# Altium schematic symbol library WE-CMANC.SchLib: 29 symbols
Pins are listed as number, name and electrical type; pins without a type are passive.

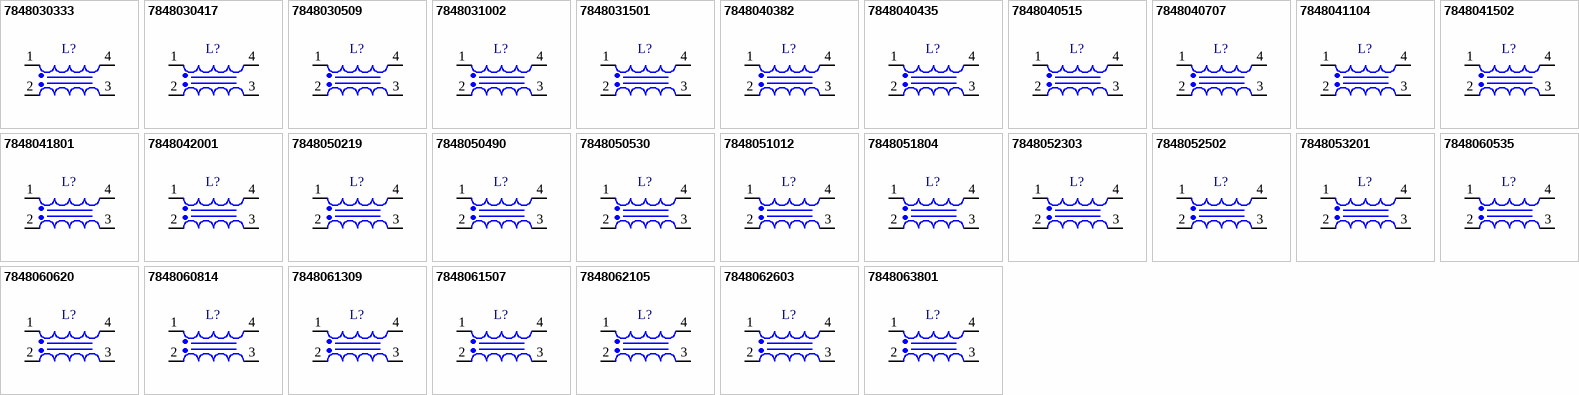
[diagram p0: symbols 7848030333 to 7848063801]

## 7848030333
designator L?, comment 33mH  (value not drawn)
WE-CMANC Common Mode Power Line Choke Nanocrystalline, THT, Type M, 33mH, 2.5A, 94mΩ; Manufacturer Part Number: 7848030333; Manufacturer: Wurth Elektronik; Case/Size Code: Type M; Insulation Test Voltage: 2100V (AC); Rated Voltage: 300V (AC); Category: Common Mode Chokes; Match Code: WE-CMANC; ComponentLink1Description: Website Link; ComponentLink1URL: https://www.we-online.com/redexpert/article/7848030333?ad; ComponentLink2Description: Datasheet Link; ComponentLink2URL: https://www.we-online.com/redexpert/spec/7848030333?ad; Mount: Through Hole; Min Operating Temperature: -55°C; Max Operating Temperature: 125°C; Packaging: Tray; Length: 23mm; Width: 13.5mm; Height: 26mm; Rated Current: 2.5A; Automotive: Yes; DC Resistance Max: 94mΩ; Inductance: 33mH
footprint Type M_7848030333
pins: 1, 2, 3, 4

## 7848030417
designator L?, comment 17mH  (value not drawn)
WE-CMANC Common Mode Power Line Choke Nanocrystalline, THT, Type M, 17mH, 4A, 52mΩ; Manufacturer Part Number: 7848030417; Manufacturer: Wurth Elektronik; Case/Size Code: Type M; Insulation Test Voltage: 2100V (AC); Rated Voltage: 300V (AC); Category: Common Mode Chokes; Match Code: WE-CMANC; ComponentLink1Description: Website Link; ComponentLink1URL: https://www.we-online.com/redexpert/article/7848030417?ad; ComponentLink2Description: Datasheet Link; ComponentLink2URL: https://www.we-online.com/redexpert/spec/7848030417?ad; Mount: Through Hole; Min Operating Temperature: -55°C; Max Operating Temperature: 125°C; Packaging: Tray; Length: 23mm; Width: 13.5mm; Height: 26mm; Rated Current: 4A; Automotive: Yes; DC Resistance Max: 52mΩ; Inductance: 17mH
footprint Type M_7848030417
pins: 1, 2, 3, 4

## 7848030509
designator L?, comment 9mH  (value not drawn)
WE-CMANC Common Mode Power Line Choke Nanocrystalline, THT, Type M, 9mH, 5A, 32mΩ; Manufacturer Part Number: 7848030509; Manufacturer: Wurth Elektronik; Case/Size Code: Type M; Insulation Test Voltage: 2100V (AC); Rated Voltage: 300V (AC); Category: Common Mode Chokes; Match Code: WE-CMANC; ComponentLink1Description: Website Link; ComponentLink1URL: https://www.we-online.com/redexpert/article/7848030509?ad; ComponentLink2Description: Datasheet Link; ComponentLink2URL: https://www.we-online.com/redexpert/spec/7848030509?ad; Mount: Through Hole; Min Operating Temperature: -55°C; Max Operating Temperature: 125°C; Packaging: Tray; Length: 23mm; Width: 13.5mm; Height: 26mm; Rated Current: 5A; Automotive: Yes; DC Resistance Max: 32mΩ; Inductance: 9mH
footprint Type M_7848030509
pins: 1, 2, 3, 4

## 7848031002
designator L?, comment 2mH  (value not drawn)
WE-CMANC Common Mode Power Line Choke Nanocrystalline, THT, Type M, 2mH, 10A, 6.3mΩ; Manufacturer Part Number: 7848031002; Manufacturer: Wurth Elektronik; Case/Size Code: Type M; Insulation Test Voltage: 2100V (AC); Rated Voltage: 300V (AC); Category: Common Mode Chokes; Match Code: WE-CMANC; ComponentLink1Description: Website Link; ComponentLink1URL: https://www.we-online.com/redexpert/article/7848031002?ad; ComponentLink2Description: Datasheet Link; ComponentLink2URL: https://www.we-online.com/redexpert/spec/7848031002?ad; Mount: Through Hole; Min Operating Temperature: -55°C; Max Operating Temperature: 125°C; Packaging: Tray; Length: 24mm; Width: 17mm; Height: 25mm; Rated Current: 10A; Automotive: Yes; DC Resistance Max: 6.3mΩ; Inductance: 2mH
footprint Type M_7848031002
pins: 1, 2, 3, 4

## 7848031501
designator L?, comment 1mH  (value not drawn)
WE-CMANC Common Mode Power Line Choke Nanocrystalline, THT, Type M, 1mH, 15A, 3.2mΩ; Manufacturer Part Number: 7848031501; Manufacturer: Wurth Elektronik; Case/Size Code: Type M; Insulation Test Voltage: 2100V (AC); Rated Voltage: 300V (AC); Category: Common Mode Chokes; Match Code: WE-CMANC; ComponentLink1Description: Website Link; ComponentLink1URL: https://www.we-online.com/redexpert/article/7848031501?ad; ComponentLink2Description: Datasheet Link; ComponentLink2URL: https://www.we-online.com/redexpert/spec/7848031501?ad; Mount: Through Hole; Min Operating Temperature: -55°C; Max Operating Temperature: 125°C; Packaging: Tray; Length: 24mm; Width: 17mm; Height: 25mm; Rated Current: 15A; Automotive: Yes; DC Resistance Max: 3.2mΩ; Inductance: 1mH
footprint Type M_7848031501
pins: 1, 2, 3, 4

## 7848040382
designator L?, comment 82mH  (value not drawn)
WE-CMANC Common Mode Power Line Choke Nanocrystalline, THT, Type L, 82mH, 2.5A, 170mΩ; Manufacturer Part Number: 7848040382; Manufacturer: Wurth Elektronik; Case/Size Code: Type L; Insulation Test Voltage: 2100V (AC); Rated Voltage: 300V (AC); Category: Common Mode Chokes; Match Code: WE-CMANC; ComponentLink1Description: Website Link; ComponentLink1URL: https://www.we-online.com/redexpert/article/7848040382?ad; ComponentLink2Description: Datasheet Link; ComponentLink2URL: https://www.we-online.com/redexpert/spec/7848040382?ad; Mount: Through Hole; Min Operating Temperature: -55°C; Max Operating Temperature: 125°C; Packaging: Tray; Length: 27mm; Width: 18mm; Height: 32mm; Rated Current: 2.5A; Automotive: Yes; DC Resistance Max: 170mΩ; Inductance: 82mH
footprint Type L_7848040382
pins: 1, 2, 3, 4

## 7848040435
designator L?, comment 35mH  (value not drawn)
WE-CMANC Common Mode Power Line Choke Nanocrystalline, THT, Type L, 35mH, 3.5A, 80mΩ; Manufacturer Part Number: 7848040435; Manufacturer: Wurth Elektronik; Case/Size Code: Type L; Insulation Test Voltage: 2100V (AC); Rated Voltage: 300V (AC); Category: Common Mode Chokes; Match Code: WE-CMANC; ComponentLink1Description: Website Link; ComponentLink1URL: https://www.we-online.com/redexpert/article/7848040435?ad; ComponentLink2Description: Datasheet Link; ComponentLink2URL: https://www.we-online.com/redexpert/spec/7848040435?ad; Mount: Through Hole; Min Operating Temperature: -55°C; Max Operating Temperature: 125°C; Packaging: Tray; Length: 27mm; Width: 18mm; Height: 32mm; Rated Current: 3.5A; Automotive: Yes; DC Resistance Max: 80mΩ; Inductance: 35mH
footprint Type L_7848040435
pins: 1, 2, 3, 4

## 7848040515
designator L?, comment 15mH  (value not drawn)
WE-CMANC Common Mode Power Line Choke Nanocrystalline, THT, Type L, 15mH, 5A, 40mΩ; Manufacturer Part Number: 7848040515; Manufacturer: Wurth Elektronik; Case/Size Code: Type L; Insulation Test Voltage: 2100V (AC); Rated Voltage: 300V (AC); Category: Common Mode Chokes; Match Code: WE-CMANC; ComponentLink1Description: Website Link; ComponentLink1URL: https://www.we-online.com/redexpert/article/7848040515?ad; ComponentLink2Description: Datasheet Link; ComponentLink2URL: https://www.we-online.com/redexpert/spec/7848040515?ad; Mount: Through Hole; Min Operating Temperature: -55°C; Max Operating Temperature: 125°C; Packaging: Tray; Length: 27mm; Width: 18mm; Height: 32mm; Rated Current: 5A; Automotive: Yes; DC Resistance Max: 40mΩ; Inductance: 15mH
footprint Type L_7848040515
pins: 1, 2, 3, 4

## 7848040707
designator L?, comment 7mH  (value not drawn)
WE-CMANC Common Mode Power Line Choke Nanocrystalline, THT, Type L, 7mH, 7A, 22mΩ; Manufacturer Part Number: 7848040707; Manufacturer: Wurth Elektronik; Case/Size Code: Type L; Insulation Test Voltage: 2100V (AC); Rated Voltage: 300V (AC); Category: Common Mode Chokes; Match Code: WE-CMANC; ComponentLink1Description: Website Link; ComponentLink1URL: https://www.we-online.com/redexpert/article/7848040707?ad; ComponentLink2Description: Datasheet Link; ComponentLink2URL: https://www.we-online.com/redexpert/spec/7848040707?ad; Mount: Through Hole; Min Operating Temperature: -55°C; Max Operating Temperature: 125°C; Packaging: Tray; Length: 29mm; Width: 19mm; Height: 28mm; Rated Current: 7A; Automotive: Yes; DC Resistance Max: 22mΩ; Inductance: 7mH
footprint Type L_7848040707
pins: 1, 2, 3, 4

## 7848041104
designator L?, comment 4mH  (value not drawn)
WE-CMANC Common Mode Power Line Choke Nanocrystalline, THT, Type L, 4mH, 11A, 8.8mΩ; Manufacturer Part Number: 7848041104; Manufacturer: Wurth Elektronik; Case/Size Code: Type L; Insulation Test Voltage: 2100V (AC); Rated Voltage: 300V (AC); Category: Common Mode Chokes; Match Code: WE-CMANC; ComponentLink1Description: Website Link; ComponentLink1URL: https://www.we-online.com/redexpert/article/7848041104?ad; ComponentLink2Description: Datasheet Link; ComponentLink2URL: https://www.we-online.com/redexpert/spec/7848041104?ad; Mount: Through Hole; Min Operating Temperature: -55°C; Max Operating Temperature: 125°C; Packaging: Tray; Length: 29mm; Width: 19mm; Height: 28mm; Rated Current: 11A; Automotive: Yes; DC Resistance Max: 8.8mΩ; Inductance: 4mH
footprint Type L_7848041104
pins: 1, 2, 3, 4

## 7848041502
designator L?, comment 2mH  (value not drawn)
WE-CMANC Common Mode Power Line Choke Nanocrystalline, THT, Type L, 2mH, 15A, 5mΩ; Manufacturer Part Number: 7848041502; Manufacturer: Wurth Elektronik; Case/Size Code: Type L; Insulation Test Voltage: 2100V (AC); Rated Voltage: 300V (AC); Category: Common Mode Chokes; Match Code: WE-CMANC; ComponentLink1Description: Website Link; ComponentLink1URL: https://www.we-online.com/redexpert/article/7848041502?ad; ComponentLink2Description: Datasheet Link; ComponentLink2URL: https://www.we-online.com/redexpert/spec/7848041502?ad; Mount: Through Hole; Min Operating Temperature: -55°C; Max Operating Temperature: 125°C; Packaging: Tray; Length: 29mm; Width: 19mm; Height: 28mm; Rated Current: 15A; Automotive: Yes; DC Resistance Max: 5mΩ; Inductance: 2mH
footprint Type L_7848041502
pins: 1, 2, 3, 4

## 7848041801
designator L?, comment 1.5mH  (value not drawn)
WE-CMANC Common Mode Power Line Choke Nanocrystalline, THT, Type L, 1.5mH, 18A, 3.2mΩ; Manufacturer Part Number: 7848041801; Manufacturer: Wurth Elektronik; Case/Size Code: Type L; Insulation Test Voltage: 2100V (AC); Rated Voltage: 300V (AC); Category: Common Mode Chokes; Match Code: WE-CMANC; ComponentLink1Description: Website Link; ComponentLink1URL: https://www.we-online.com/redexpert/article/7848041801?ad; ComponentLink2Description: Datasheet Link; ComponentLink2URL: https://www.we-online.com/redexpert/spec/7848041801?ad; Mount: Through Hole; Min Operating Temperature: -55°C; Max Operating Temperature: 125°C; Packaging: Tray; Length: 30mm; Width: 19mm; Height: 28mm; Rated Current: 18A; Automotive: Yes; DC Resistance Max: 3.2mΩ; Inductance: 1.5mH
footprint Type L_7848041801
pins: 1, 2, 3, 4

## 7848042001
designator L?, comment 1mH  (value not drawn)
WE-CMANC Common Mode Power Line Choke Nanocrystalline, THT, Type L, 1mH, 20A, 2.4mΩ; Manufacturer Part Number: 7848042001; Manufacturer: Wurth Elektronik; Case/Size Code: Type L; Insulation Test Voltage: 2100V (AC); Rated Voltage: 300V (AC); Category: Common Mode Chokes; Match Code: WE-CMANC; ComponentLink1Description: Website Link; ComponentLink1URL: https://www.we-online.com/redexpert/article/7848042001?ad; ComponentLink2Description: Datasheet Link; ComponentLink2URL: https://www.we-online.com/redexpert/spec/7848042001?ad; Mount: Through Hole; Min Operating Temperature: -55°C; Max Operating Temperature: 125°C; Packaging: Tray; Length: 30mm; Width: 19mm; Height: 28mm; Rated Current: 20A; Automotive: Yes; DC Resistance Max: 2.4mΩ; Inductance: 1mH
footprint Type L_7848042001
pins: 1, 2, 3, 4

## 7848050219
designator L?, comment 190mH  (value not drawn)
WE-CMANC Common Mode Power Line Choke Nanocrystalline, THT, Type XL, 190mH, 2A, 310mΩ; Manufacturer Part Number: 7848050219; Manufacturer: Wurth Elektronik; Case/Size Code: Type XL; Insulation Test Voltage: 2100V (AC); Rated Voltage: 300V (AC); Category: Common Mode Chokes; Match Code: WE-CMANC; ComponentLink1Description: Website Link; ComponentLink1URL: https://www.we-online.com/redexpert/article/7848050219?ad; ComponentLink2Description: Datasheet Link; ComponentLink2URL: https://www.we-online.com/redexpert/spec/7848050219?ad; Mount: Through Hole; Min Operating Temperature: -55°C; Max Operating Temperature: 125°C; Packaging: Tray; Length: 33mm; Width: 19mm; Height: 38mm; Rated Current: 2A; Automotive: Yes; DC Resistance Max: 310mΩ; Inductance: 190mH
footprint Type XL_7848050219
pins: 1, 2, 3, 4

## 7848050490
designator L?, comment 90mH  (value not drawn)
WE-CMANC Common Mode Power Line Choke Nanocrystalline, THT, Type XL, 90mH, 3.5A, 110mΩ; Manufacturer Part Number: 7848050490; Manufacturer: Wurth Elektronik; Case/Size Code: Type XL; Insulation Test Voltage: 2100V (AC); Rated Voltage: 300V (AC); Category: Common Mode Chokes; Match Code: WE-CMANC; ComponentLink1Description: Website Link; ComponentLink1URL: https://www.we-online.com/redexpert/article/7848050490?ad; ComponentLink2Description: Datasheet Link; ComponentLink2URL: https://www.we-online.com/redexpert/spec/7848050490?ad; Mount: Through Hole; Min Operating Temperature: -55°C; Max Operating Temperature: 125°C; Packaging: Tray; Length: 33mm; Width: 19mm; Height: 39mm; Rated Current: 3.5A; Automotive: Yes; DC Resistance Max: 110mΩ; Inductance: 90mH
footprint Type XL_7848050490
pins: 1, 2, 3, 4

## 7848050530
designator L?, comment 30mH  (value not drawn)
WE-CMANC Common Mode Power Line Choke Nanocrystalline, THT, Type XL, 30mH, 5A, 46mΩ; Manufacturer Part Number: 7848050530; Manufacturer: Wurth Elektronik; Case/Size Code: Type XL; Insulation Test Voltage: 2100V (AC); Rated Voltage: 300V (AC); Category: Common Mode Chokes; Match Code: WE-CMANC; ComponentLink1Description: Website Link; ComponentLink1URL: https://www.we-online.com/redexpert/article/7848050530?ad; ComponentLink2Description: Datasheet Link; ComponentLink2URL: https://www.we-online.com/redexpert/spec/7848050530?ad; Mount: Through Hole; Min Operating Temperature: -55°C; Max Operating Temperature: 125°C; Packaging: Tray; Length: 33mm; Width: 23mm; Height: 33mm; Rated Current: 5A; Automotive: Yes; DC Resistance Max: 46mΩ; Inductance: 30mH
footprint Type XL_7848050530
pins: 1, 2, 3, 4

## 7848051012
designator L?, comment 12mH  (value not drawn)
WE-CMANC Common Mode Power Line Choke Nanocrystalline, THT, Type XL, 12mH, 10A, 15mΩ; Manufacturer Part Number: 7848051012; Manufacturer: Wurth Elektronik; Case/Size Code: Type XL; Insulation Test Voltage: 2100V (AC); Rated Voltage: 300V (AC); Category: Common Mode Chokes; Match Code: WE-CMANC; ComponentLink1Description: Website Link; ComponentLink1URL: https://www.we-online.com/redexpert/article/7848051012?ad; ComponentLink2Description: Datasheet Link; ComponentLink2URL: https://www.we-online.com/redexpert/spec/7848051012?ad; Mount: Through Hole; Min Operating Temperature: -55°C; Max Operating Temperature: 125°C; Packaging: Tray; Length: 34mm; Width: 23mm; Height: 33mm; Rated Current: 10A; Automotive: Yes; DC Resistance Max: 15mΩ; Inductance: 12mH
footprint Type XL_7848051012
pins: 1, 2, 3, 4

## 7848051804
designator L?, comment 4.5mH  (value not drawn)
WE-CMANC Common Mode Power Line Choke Nanocrystalline, THT, Type XL, 4.5mH, 18A, 4.2mΩ; Manufacturer Part Number: 7848051804; Manufacturer: Wurth Elektronik; Case/Size Code: Type XL; Insulation Test Voltage: 2100V (AC); Rated Voltage: 300V (AC); Category: Common Mode Chokes; Match Code: WE-CMANC; ComponentLink1Description: Website Link; ComponentLink1URL: https://www.we-online.com/redexpert/article/7848051804?ad; ComponentLink2Description: Datasheet Link; ComponentLink2URL: https://www.we-online.com/redexpert/spec/7848051804?ad; Mount: Through Hole; Min Operating Temperature: -55°C; Max Operating Temperature: 125°C; Packaging: Tray; Length: 36mm; Width: 23mm; Height: 34mm; Rated Current: 18A; Automotive: Yes; DC Resistance Max: 4.2mΩ; Inductance: 4.5mH
footprint Type XL_7848051804
pins: 1, 2, 3, 4

## 7848052303
designator L?, comment 3mH  (value not drawn)
WE-CMANC Common Mode Power Line Choke Nanocrystalline, THT, Type XL, 3mH, 23A, 3mΩ; Manufacturer Part Number: 7848052303; Manufacturer: Wurth Elektronik; Case/Size Code: Type XL; Insulation Test Voltage: 2100V (AC); Rated Voltage: 300V (AC); Category: Common Mode Chokes; Match Code: WE-CMANC; ComponentLink1Description: Website Link; ComponentLink1URL: https://www.we-online.com/redexpert/article/7848052303?ad; ComponentLink2Description: Datasheet Link; ComponentLink2URL: https://www.we-online.com/redexpert/spec/7848052303?ad; Mount: Through Hole; Min Operating Temperature: -55°C; Max Operating Temperature: 125°C; Packaging: Tray; Length: 36mm; Width: 23mm; Height: 33mm; Rated Current: 23A; Automotive: Yes; DC Resistance Max: 3mΩ; Inductance: 3mH
footprint Type XL_7848052303
pins: 1, 2, 3, 4

## 7848052502
designator L?, comment 2.5mH  (value not drawn)
WE-CMANC Common Mode Power Line Choke Nanocrystalline, THT, Type XL, 2.5mH, 25A, 2.2mΩ; Manufacturer Part Number: 7848052502; Manufacturer: Wurth Elektronik; Case/Size Code: Type XL; Insulation Test Voltage: 2100V (AC); Rated Voltage: 300V (AC); Category: Common Mode Chokes; Match Code: WE-CMANC; ComponentLink1Description: Website Link; ComponentLink1URL: https://www.we-online.com/redexpert/article/7848052502?ad; ComponentLink2Description: Datasheet Link; ComponentLink2URL: https://www.we-online.com/redexpert/spec/7848052502?ad; Mount: Through Hole; Min Operating Temperature: -55°C; Max Operating Temperature: 125°C; Packaging: Tray; Length: 36mm; Width: 23mm; Height: 34mm; Rated Current: 25A; Automotive: Yes; DC Resistance Max: 2.2mΩ; Inductance: 2.5mH
footprint Type XL_7848052502
pins: 1, 2, 3, 4

## 7848053201
designator L?, comment 0.9mH  (value not drawn)
WE-CMANC Common Mode Power Line Choke Nanocrystalline, THT, Type XL, 0.9mH, 32A, 1.1mΩ; Manufacturer Part Number: 7848053201; Manufacturer: Wurth Elektronik; Case/Size Code: Type XL; Insulation Test Voltage: 2100V (AC); Rated Voltage: 300V (AC); Category: Common Mode Chokes; Match Code: WE-CMANC; ComponentLink1Description: Website Link; ComponentLink1URL: https://www.we-online.com/redexpert/article/7848053201?ad; ComponentLink2Description: Datasheet Link; ComponentLink2URL: https://www.we-online.com/redexpert/spec/7848053201?ad; Mount: Through Hole; Min Operating Temperature: -55°C; Max Operating Temperature: 125°C; Packaging: Tray; Length: 37mm; Width: 23mm; Height: 34mm; Rated Current: 32A; Automotive: Yes; DC Resistance Max: 1.1mΩ; Inductance: 0.9mH
footprint Type XL_7848053201
pins: 1, 2, 3, 4

## 7848060535
designator L?, comment 35mH  (value not drawn)
WE-CMANC Common Mode Power Line Choke Nanocrystalline, THT, Type XXL, 35mH, 5A, 90mΩ; Manufacturer Part Number: 7848060535; Manufacturer: Wurth Elektronik; Insulation Test Voltage: 2100V (AC); Rated Voltage: 300V (AC); Category: Common Mode Chokes; Match Code: WE-CMANC; ComponentLink1Description: Website Link; ComponentLink1URL: https://www.we-online.com/redexpert/article/7848060535?ad; ComponentLink2Description: Datasheet Link; ComponentLink2URL: https://www.we-online.com/redexpert/spec/7848060535?ad; Mount: Through Hole; Min Operating Temperature: -55°C; Max Operating Temperature: 125°C; Packaging: Tray; Case/Size Code: Type XXL; Length: 43mm; Width: 27mm; Height: 46mm; Rated Current: 5A; Automotive: Yes; DC Resistance Max: 90mΩ; Inductance: 35mH
footprint Type XXL_7848060535
pins: 1, 2, 3, 4

## 7848060620
designator L?, comment 20mH  (value not drawn)
WE-CMANC Common Mode Power Line Choke Nanocrystalline, THT, Type XXL, 20mH, 6A, 45mΩ; Manufacturer Part Number: 7848060620; Manufacturer: Wurth Elektronik; Insulation Test Voltage: 2100V (AC); Rated Voltage: 300V (AC); Category: Common Mode Chokes; Match Code: WE-CMANC; ComponentLink1Description: Website Link; ComponentLink1URL: https://www.we-online.com/redexpert/article/7848060620?ad; ComponentLink2Description: Datasheet Link; ComponentLink2URL: https://www.we-online.com/redexpert/spec/7848060620?ad; Mount: Through Hole; Min Operating Temperature: -55°C; Max Operating Temperature: 125°C; Packaging: Tray; Case/Size Code: Type XXL; Length: 43mm; Width: 27mm; Height: 46mm; Rated Current: 6A; Automotive: Yes; DC Resistance Max: 45mΩ; Inductance: 20mH
footprint Type XXL_7848060620
pins: 1, 2, 3, 4

## 7848060814
designator L?, comment 14mH  (value not drawn)
WE-CMANC Common Mode Power Line Choke Nanocrystalline, THT, Type XXL, 14mH, 8A, 27mΩ; Manufacturer Part Number: 7848060814; Manufacturer: Wurth Elektronik; Insulation Test Voltage: 2100V (AC); Rated Voltage: 300V (AC); Category: Common Mode Chokes; Match Code: WE-CMANC; ComponentLink1Description: Website Link; ComponentLink1URL: https://www.we-online.com/redexpert/article/7848060814?ad; ComponentLink2Description: Datasheet Link; ComponentLink2URL: https://www.we-online.com/redexpert/spec/7848060814?ad; Mount: Through Hole; Min Operating Temperature: -55°C; Max Operating Temperature: 125°C; Packaging: Tray; Case/Size Code: Type XXL; Length: 43.5mm; Width: 27mm; Height: 46mm; Rated Current: 8A; Automotive: Yes; DC Resistance Max: 27mΩ; Inductance: 14mH
footprint Type XXL_7848060814
pins: 1, 2, 3, 4

## 7848061309
designator L?, comment 9mH  (value not drawn)
WE-CMANC Common Mode Power Line Choke Nanocrystalline, THT, Type XXL, 9mH, 13A, 15mΩ; Manufacturer Part Number: 7848061309; Manufacturer: Wurth Elektronik; Insulation Test Voltage: 2100V (AC); Rated Voltage: 300V (AC); Category: Common Mode Chokes; Match Code: WE-CMANC; ComponentLink1Description: Website Link; ComponentLink1URL: https://www.we-online.com/redexpert/article/7848061309?ad; ComponentLink2Description: Datasheet Link; ComponentLink2URL: https://www.we-online.com/redexpert/spec/7848061309?ad; Mount: Through Hole; Min Operating Temperature: -55°C; Max Operating Temperature: 125°C; Packaging: Tray; Case/Size Code: Type XXL; Length: 45mm; Width: 27mm; Height: 46mm; Rated Current: 13A; Automotive: Yes; DC Resistance Max: 15mΩ; Inductance: 9mH
footprint Type XXL_7848061309
pins: 1, 2, 3, 4

## 7848061507
designator L?, comment 7mH  (value not drawn)
WE-CMANC Common Mode Power Line Choke Nanocrystalline, THT, Type XXL, 7mH, 15A, 9.5mΩ; Manufacturer Part Number: 7848061507; Manufacturer: Wurth Elektronik; Insulation Test Voltage: 2100V (AC); Rated Voltage: 300V (AC); Category: Common Mode Chokes; Match Code: WE-CMANC; ComponentLink1Description: Website Link; ComponentLink1URL: https://www.we-online.com/redexpert/article/7848061507?ad; ComponentLink2Description: Datasheet Link; ComponentLink2URL: https://www.we-online.com/redexpert/spec/7848061507?ad; Mount: Through Hole; Min Operating Temperature: -55°C; Max Operating Temperature: 125°C; Packaging: Tray; Case/Size Code: Type XXL; Length: 46.5mm; Width: 27.5mm; Height: 46mm; Rated Current: 15A; Automotive: Yes; DC Resistance Max: 9.5mΩ; Inductance: 7mH
footprint Type XXL_7848061507
pins: 1, 2, 3, 4

## 7848062105
designator L?, comment 5mH  (value not drawn)
WE-CMANC Common Mode Power Line Choke Nanocrystalline, THT, Type XXL, 5mH, 21A, 6.5mΩ; Manufacturer Part Number: 7848062105; Manufacturer: Wurth Elektronik; Insulation Test Voltage: 2100V (AC); Rated Voltage: 300V (AC); Category: Common Mode Chokes; Match Code: WE-CMANC; ComponentLink1Description: Website Link; ComponentLink1URL: https://www.we-online.com/redexpert/article/7848062105?ad; ComponentLink2Description: Datasheet Link; ComponentLink2URL: https://www.we-online.com/redexpert/spec/7848062105?ad; Mount: Through Hole; Min Operating Temperature: -55°C; Max Operating Temperature: 125°C; Packaging: Tray; Case/Size Code: Type XXL; Length: 46.5mm; Width: 27.5mm; Height: 46mm; Rated Current: 21A; Automotive: Yes; DC Resistance Max: 6.5mΩ; Inductance: 5mH
footprint Type XXL_7848062105
pins: 1, 2, 3, 4

## 7848062603
designator L?, comment 3mH  (value not drawn)
WE-CMANC Common Mode Power Line Choke Nanocrystalline, THT, Type XXL, 3mH, 26A, 4.5mΩ; Manufacturer Part Number: 7848062603; Manufacturer: Wurth Elektronik; Insulation Test Voltage: 2100V (AC); Rated Voltage: 300V (AC); Category: Common Mode Chokes; Match Code: WE-CMANC; ComponentLink1Description: Website Link; ComponentLink1URL: https://www.we-online.com/redexpert/article/7848062603?ad; ComponentLink2Description: Datasheet Link; ComponentLink2URL: https://www.we-online.com/redexpert/spec/7848062603?ad; Mount: Through Hole; Min Operating Temperature: -55°C; Max Operating Temperature: 125°C; Packaging: Tray; Case/Size Code: Type XXL; Length: 47mm; Width: 27.5mm; Height: 46mm; Rated Current: 26A; Automotive: Yes; DC Resistance Max: 4.5mΩ; Inductance: 3mH
footprint Type XXL_7848062603
pins: 1, 2, 3, 4

## 7848063801
designator L?, comment 1.5mH  (value not drawn)
WE-CMANC Common Mode Power Line Choke Nanocrystalline, THT, Type XXL, 1.5mH, 38A, 2.3mΩ; Manufacturer Part Number: 7848063801; Manufacturer: Wurth Elektronik; Insulation Test Voltage: 2100V (AC); Rated Voltage: 300V (AC); Category: Common Mode Chokes; Match Code: WE-CMANC; ComponentLink1Description: Website Link; ComponentLink1URL: https://www.we-online.com/redexpert/article/7848063801?ad; ComponentLink2Description: Datasheet Link; ComponentLink2URL: https://www.we-online.com/redexpert/spec/7848063801?ad; Mount: Through Hole; Min Operating Temperature: -55°C; Max Operating Temperature: 125°C; Packaging: Tray; Case/Size Code: Type XXL; Length: 48mm; Width: 27.5mm; Height: 46mm; Rated Current: 38A; Automotive: Yes; DC Resistance Max: 2.3mΩ; Inductance: 1.5mH
footprint Type XXL_7848063801
pins: 1, 2, 3, 4